# EAGLE library part AT32UC3L0* (library ic-ATMEL)
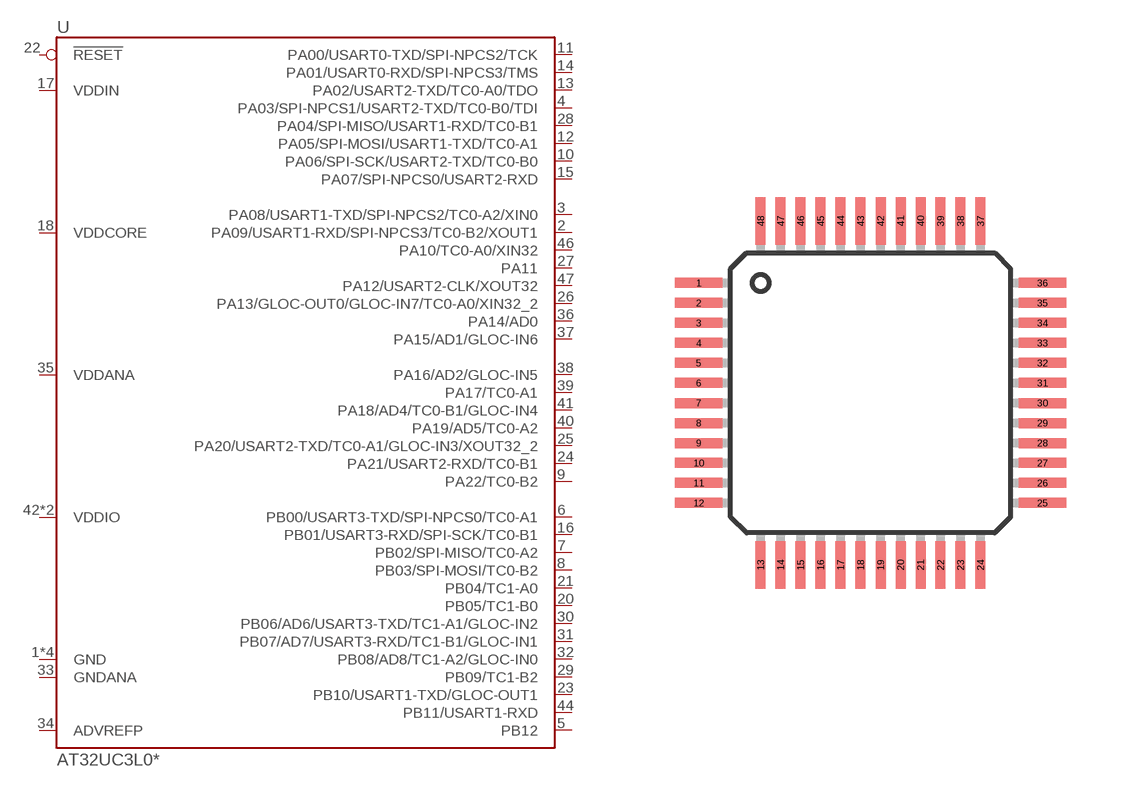
[diagram p13: symbol with the pads of QFP48-0.5; footprint QFP48-0.5]

Designator prefix U

## AT32UC3L016-AU, AT32UC3L032-AU, AT32UC3L064-AU  [QFP48-0.5]
1  GND
2  PA09/USART1-RXD/SPI-NPCS3/TC0-B2/XOUT1
3  PA08/USART1-TXD/SPI-NPCS2/TC0-A2/XIN0
4  PA03/SPI-NPCS1/USART2-TXD/TC0-B0/TDI
5  PB12
6  PB00/USART3-TXD/SPI-NPCS0/TC0-A1
7  PB02/SPI-MISO/TC0-A2
8  PB03/SPI-MOSI/TC0-B2
9  PA22/TC0-B2
10  PA06/SPI-SCK/USART2-TXD/TC0-B0
11  PA00/USART0-TXD/SPI-NPCS2/TCK
12  PA05/SPI-MOSI/USART1-TXD/TC0-A1
13  PA02/USART2-TXD/TC0-A0/TDO
14  PA01/USART0-RXD/SPI-NPCS3/TMS
15  PA07/SPI-NPCS0/USART2-RXD
16  PB01/USART3-RXD/SPI-SCK/TC0-B1
17  VDDIN
18  VDDCORE
19  GND
20  PB05/TC1-B0
21  PB04/TC1-A0
22  !RESET
23  PB10/USART1-TXD/GLOC-OUT1
24  PA21/USART2-RXD/TC0-B1
25  PA20/USART2-TXD/TC0-A1/GLOC-IN3/XOUT32_2
26  PA13/GLOC-OUT0/GLOC-IN7/TC0-A0/XIN32_2
27  PA11
28  PA04/SPI-MISO/USART1-RXD/TC0-B1
29  PB09/TC1-B2
30  PB06/AD6/USART3-TXD/TC1-A1/GLOC-IN2
31  PB07/AD7/USART3-RXD/TC1-B1/GLOC-IN1
32  PB08/AD8/TC1-A2/GLOC-IN0
33  GNDANA
34  ADVREFP
35  VDDANA
36  PA14/AD0
37  PA15/AD1/GLOC-IN6
38  PA16/AD2/GLOC-IN5
39  PA17/TC0-A1
40  PA19/AD5/TC0-A2
41  PA18/AD4/TC0-B1/GLOC-IN4
42  VDDIO
43  GND
44  PB11/USART1-RXD
45  GND
46  PA10/TC0-A0/XIN32
47  PA12/USART2-CLK/XOUT32
48  VDDIO

## Footprint QFP48-0.5 (pad centres in mm)
smd 1.2 x 0.25: 1 -4.3,2.75; 2 -4.3,2.25; 3 -4.3,1.75; 4 -4.3,1.25; 5 -4.3,0.75; 6 -4.3,0.25; 7 -4.3,-0.25; 8 -4.3,-0.75; 9 -4.3,-1.25; 10 -4.3,-1.75; 11 -4.3,-2.25; 12 -4.3,-2.75; 25 4.3,-2.75; 26 4.3,-2.25; 27 4.3,-1.75; 28 4.3,-1.25; 29 4.3,-0.75; 30 4.3,-0.25; 31 4.3,0.25; 32 4.3,0.75; 33 4.3,1.25; 34 4.3,1.75; 35 4.3,2.25; 36 4.3,2.75
smd 0.25 x 1.2: 13 -2.75,-4.3; 14 -2.25,-4.3; 15 -1.75,-4.3; 16 -1.25,-4.3; 17 -0.75,-4.3; 18 -0.25,-4.3; 19 0.25,-4.3; 20 0.75,-4.3; 21 1.25,-4.3; 22 1.75,-4.3; 23 2.25,-4.3; 24 2.75,-4.3; 37 2.75,4.3; 38 2.25,4.3; 39 1.75,4.3; 40 1.25,4.3; 41 0.75,4.3; 42 0.25,4.3; 43 -0.25,4.3; 44 -0.75,4.3; 45 -1.25,4.3; 46 -1.75,4.3; 47 -2.25,4.3; 48 -2.75,4.3